# Altium schematic symbol library 696108003002.SchLib: 1 symbol
Pins are listed as number, name and electrical type; pins without a type are passive.

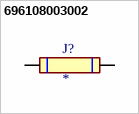
[diagram p0: symbol 696108003002]

## 696108003002
designator J?
Fuse Block 20 A 250V 1 Circuit Cartridge Through Hole; MF: WÃ¼rth Elektronik; MP: 696108003002; SnapEDA_Link: https://www.snapeda.com/parts/696108003002/W%25C3%25BCrth+Elektronik+Midcom/view-part/?ref=snap; Package: None; Value: *; Check_prices: https://www.snapeda.com/parts/696108003002/W%25C3%25BCrth+Elektronik+Midcom/view-part/?ref=eda
footprint 696108003002
pins: 1, 2